# EAGLE library part CD4082BM96 (library KillSwitch)
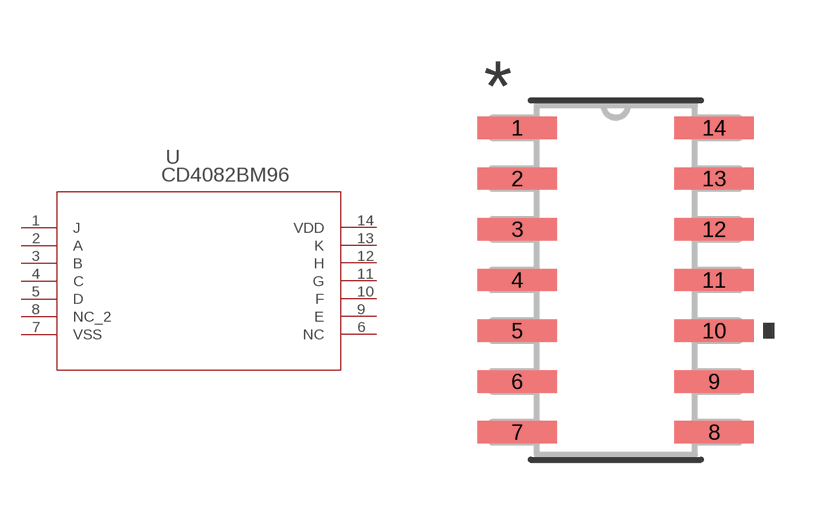
[diagram p3: symbol with the pads of D14; footprint D14]

Designator prefix -

## CD4082BM96  [D14]
1  J  pas
2  A  pas
3  B  pas
4  C  pas
5  D  pas
6  NC  nc
7  VSS  pwr
8  NC_2  nc
9  E  pas
10  F  pas
11  G  pas
12  H  pas
13  K  pas
14  VDD  pwr

## Footprint D14 (pad centres in mm)
smd 1.981 x 0.559: 1 -2.464,3.81; 2 -2.464,2.54; 3 -2.464,1.27; 4 -2.464,0; 5 -2.464,-1.27; 6 -2.464,-2.54; 7 -2.464,-3.81; 8 2.464,-3.81; 9 2.464,-2.54; 10 2.464,-1.27; 11 2.464,0; 12 2.464,1.27; 13 2.464,2.54; 14 2.464,3.81